# EAGLE library part PEC11L-4115F-S0020 (library PEC11L-4115F-S0020)
Encoders ENCODER Source: Datasheet <https://datasheet.datasheetarchive.com/originals/distributors/Datasheets-DGA5/494003.pdf>
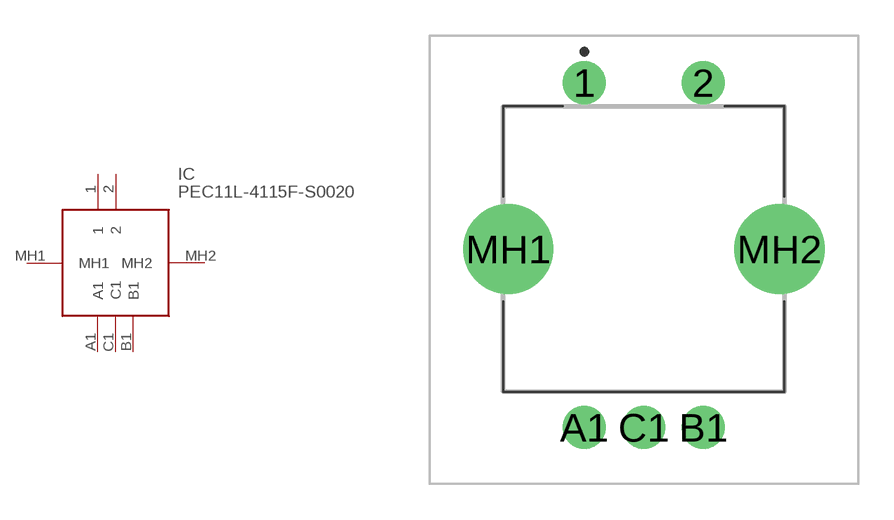
[diagram p0: symbol with the pads of PEC11L4115FS0020; footprint PEC11L4115FS0020]

Designator prefix IC

## PEC11L-4115F-S0020 (Arrow_Part_Number: PEC11L-4115F-S0020; Arrow_Price-Stock: https://www.arrow.com/en/products/pec11l-4115f-s0020/bourns?region=nac; Description: Encoders ENCODER; Height: 25mm; Manufacturer_Name: Bourns; Manufacturer_Part_Number: PEC11L-4115F-S0020; Mouser_Part_Number: 652-PEC11L4115FS0020; Mouser_Price-Stock: https://www.mouser.co.uk/ProductDetail/Bourns/PEC11L-4115F-S0020?qs=gk21WLQFtgRAgrgJZfpkWw%3D%3D)  [PEC11L4115FS0020]
1  1
2  2
A1  A1
B1  B1
C1  C1
MH1  MH1
MH2  MH2

## Footprint PEC11L4115FS0020 (pad centres in mm)
PEC11L-4115F-S0020
drill 1.2 pad 1.8: 1 0,0; 2 5,0; A1 0,-14.5; B1 5,-14.5; C1 2.5,-14.5
drill 2.524 pad 3.786: MH1 -3.2,-7; MH2 8.2,-7